# EAGLE library part HDSM-291 (library Display_Avagio)
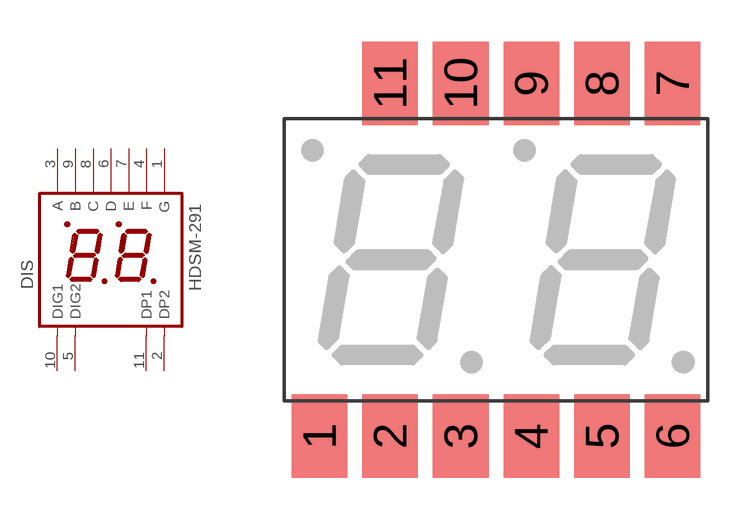
[diagram p0: symbol with the pads of HDSM-291X/293X; footprint HDSM-291X/293X]

Designator prefix DIS

## HDSM-291L  [HDSM-291X/293X]
1  G
2  DP2
3  A
4  F
5  DIG2
6  D
7  E
8  C
9  B
10  DIG1
11  DP1

## Footprint HDSM-291X/293X (pad centres in mm)
smd 2 x 3: 1 -6.35,-6.35; 2 -3.81,-6.35; 3 -1.27,-6.35; 4 1.27,-6.35; 5 3.81,-6.35; 6 6.35,-6.35; 7 6.35,6.35; 8 3.81,6.35; 9 1.27,6.35; 10 -1.27,6.35; 11 -3.81,6.35